# Altium schematic symbol library pcb.SchLib: 1 symbol
Pins are listed as number, name and electrical type; pins without a type are passive.

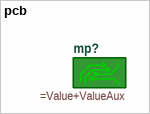
[diagram p0: symbol pcb]

## pcb
designator mp?  (mechanical)
=Description